# Altium footprint library RC - 6332.PcbLib: 1 footprints
Each footprint in its own frame and in the unit in brackets; x right, y up, seen from the top. Pads: shape width x height; smd on the part's side, far side on the other; paste and mask are expansions set on the pad; w line width, h text height; cw(c..) or ccw(c..) is an arc to the next point about the centre after c.
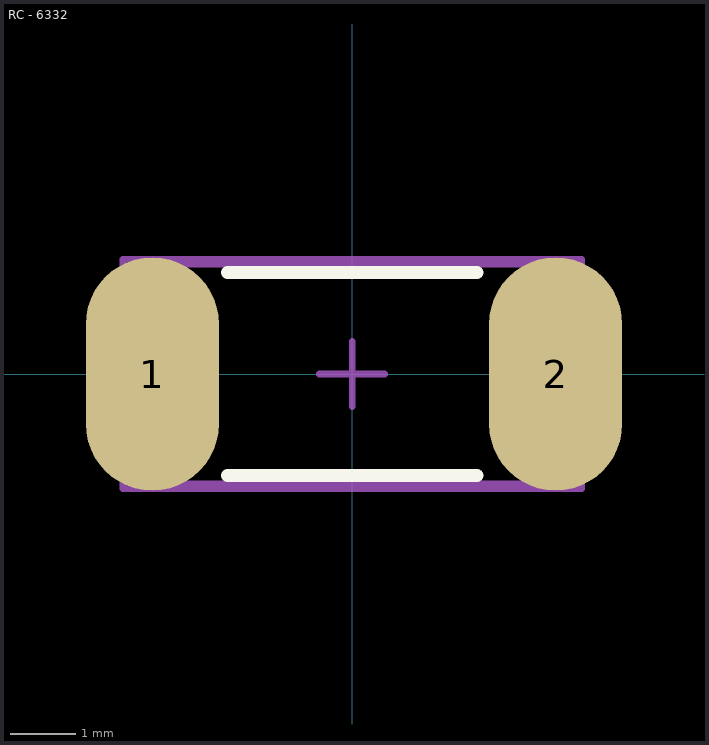
[diagram p0: the footprint, top view; thin cyan lines are the x and y axes]

## RC - 6332 [mil] "Chip Resistor, Body 6.3x3.2mm, IPC High Density"
height 35.43
pads (2):
  oval 80x140 smd: 1(-120,0) 2(122.2,0)
Top Overlay:
  lines w7.87: -74.8,-61.02 74.8,-61.02 ; -74.8,61.02 74.8,61.02
Mechanical 13:
  lines w3.94: -126.97,-65.94 126.97,-65.94 126.97,65.94 -126.97,65.94 -126.97,-65.94
Mechanical 15:
  lines w3.94: -19.68,0 19.69,0 ; 0,-19.69 0,19.68 ; -137.8,-68.9 137.8,-68.9 137.8,68.9 -137.8,68.9 -137.8,-68.9
3D body: height 35.43, standoff 0, extent -126.97,-65.94 126.97,65.94